# Altium schematic symbol library MAL214699107E3.SchLib: 1 symbol
Pins are listed as number, name and electrical type; pins without a type are passive.

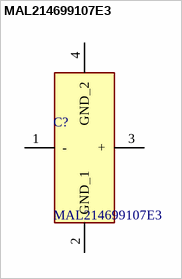
[diagram p0: symbol MAL214699107E3]

## MAL214699107E3
designator C?
Vishay 330F 50V dc Aluminium Electrolytic Capacitor, Surface Mount 12.5 (Dia.) x 16mm +125C 12.5mm 3.6mm; Mouser Part Number: 594-MAL214699107E3; Mouser Price/Stock: https://www.mouser.co.uk/ProductDetail/Vishay-BC-Components/MAL214699107E3?qs=Ep9Lwju7gVqGQFZeQuJIeQ%3D%3D; Manufacturer_Name: Vishay; Manufacturer_Part_Number: MAL214699107E3; Datasheet Link: http://www.vishay.com/docs/28403/146cti.pdf; Geometry.Height: 16mm
footprint MAL214699107E3
pins: 1 -, 2 GND_1, 3 +, 4 GND_2